# EAGLE library part 9718-50 (library impellimax-drivers)
Please contact factory for your specific package and pinout needs. www.impellimax.com 603-886-9569
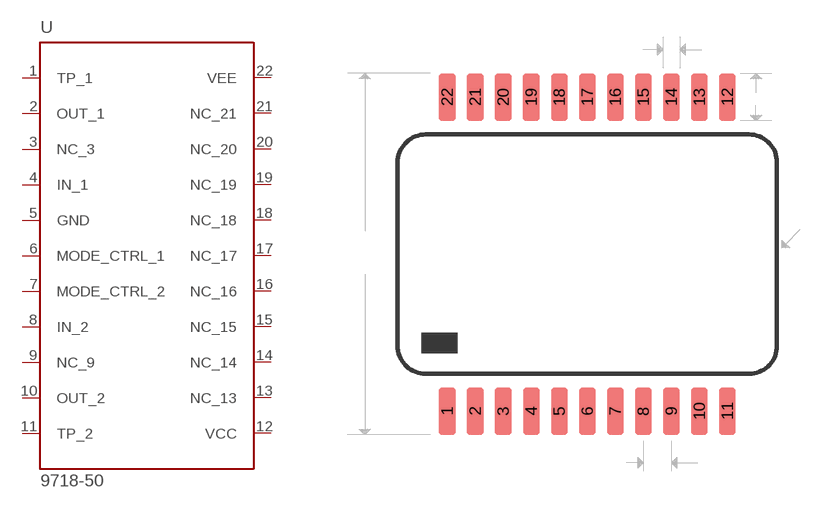
[diagram p12: symbol with the pads of 7403_C123; footprint 7403_C123]

Designator prefix U

## 9718-50  [7403_C123]
1  TP_1  in
2  OUT_1  in
3  NC_3  in
4  IN_1  in
5  GND  pas
6  MODE_CTRL_1  in
7  MODE_CTRL_2  in
8  IN_2  in
9  NC_9  in
10  OUT_2  in
11  TP_2  pas
12  VCC  in
13  NC_13  in
14  NC_14  in
15  NC_15  in
16  NC_16  in
17  NC_17  in
18  NC_18  in
19  NC_19  in
20  NC_20  in
21  NC_21  in
22  VEE  in

## Footprint 7403_C123 (pad centres in mm)
package .395 by .645 max actual lead to lead length .615 max not leadformed, seat package in thru-hole lead width .016, land pattern width .030
smd 0.762 x 2.159: 1 -6.351,-7.114; 2 -5.081,-7.11; 3 -3.811,-7.114; 4 -2.541,-7.11; 5 -1.269,-7.112; 6 0.001,-7.115; 7 1.267,-7.112; 8 2.538,-7.115; 9 3.809,-7.112; 10 5.079,-7.114; 11 6.349,-7.11; 12 6.349,7.114; 13 5.079,7.11; 14 3.808,7.11; 15 2.538,7.11; 16 1.268,7.11; 17 0.001,7.11; 18 -1.272,7.11; 19 -2.542,7.11; 20 -3.812,7.11; 21 -5.081,7.114; 22 -6.351,7.11